# Altium integrated library NXP Semiconductors Standard MOSFETs.IntLib: 477 symbols (part 7 of 14)
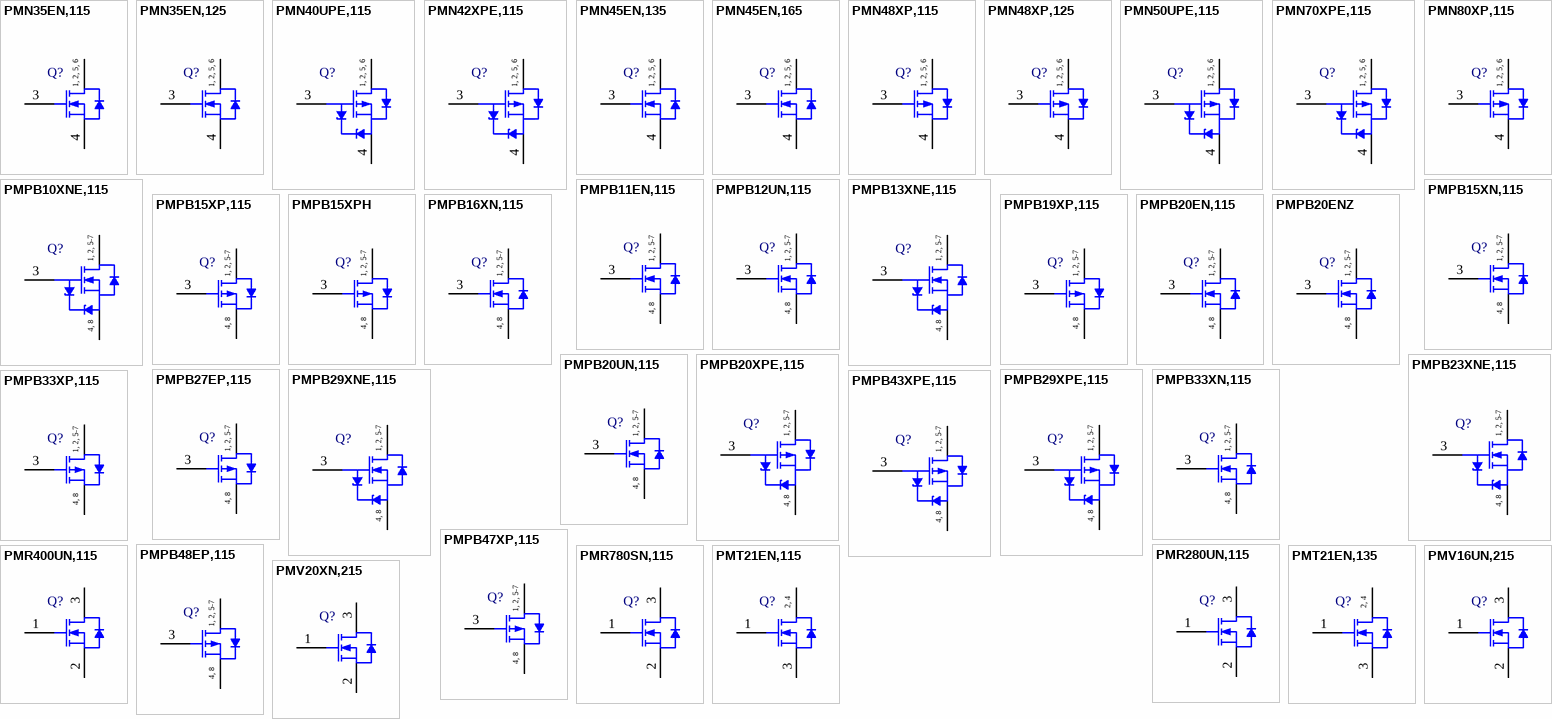
[diagram p18: symbols PMN35EN,115 to PMV20XN,215]

## PMT21EN,115
designator Q?
N-Channel Trench MOSFET, 30 V, 7.4 A, -55 to 150 degC, 4-Pin SOT223, Tape and Reel; Manufacturer: NXP Semiconductors; PartNumber: PMT21EN,115; Channel Type: N; Ciss [typ] (pF): 588; Coss [typ] (pF): 154; ID [max] (A): 7.4; Packing: Tape & Reel; VDS [max] (V): 30; VGSth [typ] (V): 1.5; DatasheetVersion: Rev. 1; PackageVersion: 06-03-16, 03/2006; PackageReference: SOT223; PackageDescription: 4-Pin Small Outline Transistor Package, Body 6.5 x 3.5 mm, Pitch 2.3 mm; Supplier 1: Digi-Key; Supplier Part Number 1: 568-10997-2-ND; Supplier 2: Digi-Key; Supplier Part Number 2: 568-10997-1-ND; Supplier 3: Digi-Key; Supplier Part Number 3: 568-10997-6-ND; Supplier 4: Mouser; Supplier Part Number 4: 771-PMT21EN,115; Mounting Technology: Surface Mount; Code_JEITA: SC-73; ComponentLink1Description: Manufacturer URL; ComponentLink1URL: http://www.nxp.com/; ComponentLink2Description: Datasheet; ComponentLink2URL: http://www.nxp.com/documents/data_sheet/PMT21EN.pdf; ComponentLink3Description: Package Specification; ComponentLink3URL: http://www.nxp.com/documents/outline_drawing/sot223_po.pdf
footprint NXP-SOT223_N (SOT223, 4-Leads, Body 6.7x3.7mm, Pitch 2.3mm, IPC Medium Density)
footprint NXP-SOT223_L (SOT223, 4-Leads, Body 6.7x3.7mm, Pitch 2.3mm, IPC High Density)
footprint NXP-SOT223_M (SOT223, 4-Leads, Body 6.7x3.7mm, Pitch 2.3mm, IPC Low Density)
pins: 1 G "gate", 2 D "drain", 3 S "source", 4 D "drain"
text: 2, 4

## PMT21EN,135
designator Q?
N-Channel Trench MOSFET, 30 V, 7.4 A, -55 to 150 degC, 4-Pin SOT223, Tape and Reel; Manufacturer: NXP Semiconductors; PartNumber: PMT21EN,135; Channel Type: N; Ciss [typ] (pF): 588; Coss [typ] (pF): 154; ID [max] (A): 7.4; Packing: Tape & Reel; VDS [max] (V): 30; VGSth [typ] (V): 1.5; DatasheetVersion: Rev. 1; PackageVersion: 06-03-16, 03/2006; PackageReference: SOT223; PackageDescription: 4-Pin Small Outline Transistor Package, Body 6.5 x 3.5 mm, Pitch 2.3 mm; Supplier 1: Digi-Key; Supplier Part Number 1: 568-10827-2-ND; Supplier 2: Digi-Key; Supplier Part Number 2: 568-10827-1-ND; Supplier 3: Digi-Key; Supplier Part Number 3: 568-10827-6-ND; Supplier 4: Mouser; Supplier Part Number 4: 771-PMT21EN,135; Mounting Technology: Surface Mount; Code_JEITA: SC-73; ComponentLink1Description: Manufacturer URL; ComponentLink1URL: http://www.nxp.com/; ComponentLink2Description: Datasheet; ComponentLink2URL: http://www.nxp.com/documents/data_sheet/PMT21EN.pdf; ComponentLink3Description: Package Specification; ComponentLink3URL: http://www.nxp.com/documents/outline_drawing/sot223_po.pdf
footprint NXP-SOT223_N (SOT223, 4-Leads, Body 6.7x3.7mm, Pitch 2.3mm, IPC Medium Density)
footprint NXP-SOT223_L (SOT223, 4-Leads, Body 6.7x3.7mm, Pitch 2.3mm, IPC High Density)
footprint NXP-SOT223_M (SOT223, 4-Leads, Body 6.7x3.7mm, Pitch 2.3mm, IPC Low Density)
pins: 1 G "gate", 2 D "drain", 3 S "source", 4 D "drain"
text: 2, 4

## PMV16UN,215
designator Q?
N-Channel Trench MOSFET, 20 V, 5.8 A, -55 to 150 degC, 3-Pin SOT23, Tape and Reel; Manufacturer: NXP Semiconductors; PartNumber: PMV16UN,215; Channel Type: N; Ciss [typ] (pF): 670; Coss [typ] (pF): 195; ID [max] (A): 5.8; Packing: Tape & Reel; VDS [max] (V): 20; VGSth [typ] (V): 0.7; DatasheetVersion: Rev. 1; PackageVersion: 06-03-16, 03/2006; PackageReference: SOT23; PackageDescription: 3-Pin Small Outline Transistor Package, Body 2.9 x 1.3 mm, Pitch 0.95 mm; Supplier 1: Digi-Key; Supplier Part Number 1: 568-7533-2-ND; Supplier 2: Digi-Key; Supplier Part Number 2: 568-7533-1-ND; Supplier 3: Digi-Key; Supplier Part Number 3: 568-7533-6-ND; Supplier 4: Newark; Supplier Part Number 4: 85W3197; Supplier 5: Newark; Supplier Part Number 5: 54T9403; Supplier 6: Mouser; Supplier Part Number 6: 771-PMV16UN215; Mounting Technology: Surface Mount; Code_JEDEC: TO-236AB; ComponentLink1Description: Manufacturer URL; ComponentLink1URL: http://www.nxp.com/; ComponentLink2Description: Datasheet; ComponentLink2URL: http://www.nxp.com/documents/data_sheet/PMV16UN.pdf; ComponentLink3Description: Package Specification; ComponentLink3URL: http://www.nxp.com/documents/outline_drawing/sot023_po.pdf
footprint NXP-SOT23_N (SOT23, 3-Leads, Body 3x1.4mm, Pitch 0.95mm, IPC Medium Density)
footprint NXP-SOT23_L (SOT23, 3-Leads, Body 3x1.4mm, Pitch 0.95mm, IPC High Density)
footprint NXP-SOT23_M (SOT23, 3-Leads, Body 3x1.4mm, Pitch 0.95mm, IPC Low Density)
pins: 1 G "gate", 2 S "source", 3 D "drain"

## PMV20XN,215
designator Q?
N-Channel Trench MOSFET, 30 V, 4.8 A, -55 to 150 degC, 3-Pin SOT23, Tape and Reel; Manufacturer: NXP Semiconductors; PartNumber: PMV20XN,215; Channel Type: N; Ciss [typ] (pF): 585; Coss [typ] (pF): 110; ID [max] (A): 4.8; Packing: Tape & Reel; VDS [max] (V): 30; VGSth [typ] (V): 1; DatasheetVersion: Rev. 1; PackageVersion: 06-03-16, 03/2006; PackageReference: SOT23; PackageDescription: 3-Pin Small Outline Transistor Package, Body 2.9 x 1.3 mm, Pitch 0.95 mm; Supplier 1: Digi-Key; Supplier Part Number 1: 568-7534-2-ND; Supplier 2: Digi-Key; Supplier Part Number 2: 568-7534-1-ND; Supplier 3: Digi-Key; Supplier Part Number 3: 568-7534-6-ND; Supplier 4: Newark; Supplier Part Number 4: 54T9405; Supplier 5: Mouser; Supplier Part Number 5: 771-PMV20XN215; Mounting Technology: Surface Mount; Code_JEDEC: TO-236AB; ComponentLink1Description: Manufacturer URL; ComponentLink1URL: http://www.nxp.com/; ComponentLink2Description: Datasheet; ComponentLink2URL: http://www.nxp.com/documents/data_sheet/PMV20XN.pdf; ComponentLink3Description: Package Specification; ComponentLink3URL: http://www.nxp.com/documents/outline_drawing/sot023_po.pdf
footprint NXP-SOT23_N (SOT23, 3-Leads, Body 3x1.4mm, Pitch 0.95mm, IPC Medium Density)
footprint NXP-SOT23_L (SOT23, 3-Leads, Body 3x1.4mm, Pitch 0.95mm, IPC High Density)
footprint NXP-SOT23_M (SOT23, 3-Leads, Body 3x1.4mm, Pitch 0.95mm, IPC Low Density)
pins: 1 G "gate", 2 S "source", 3 D "drain"

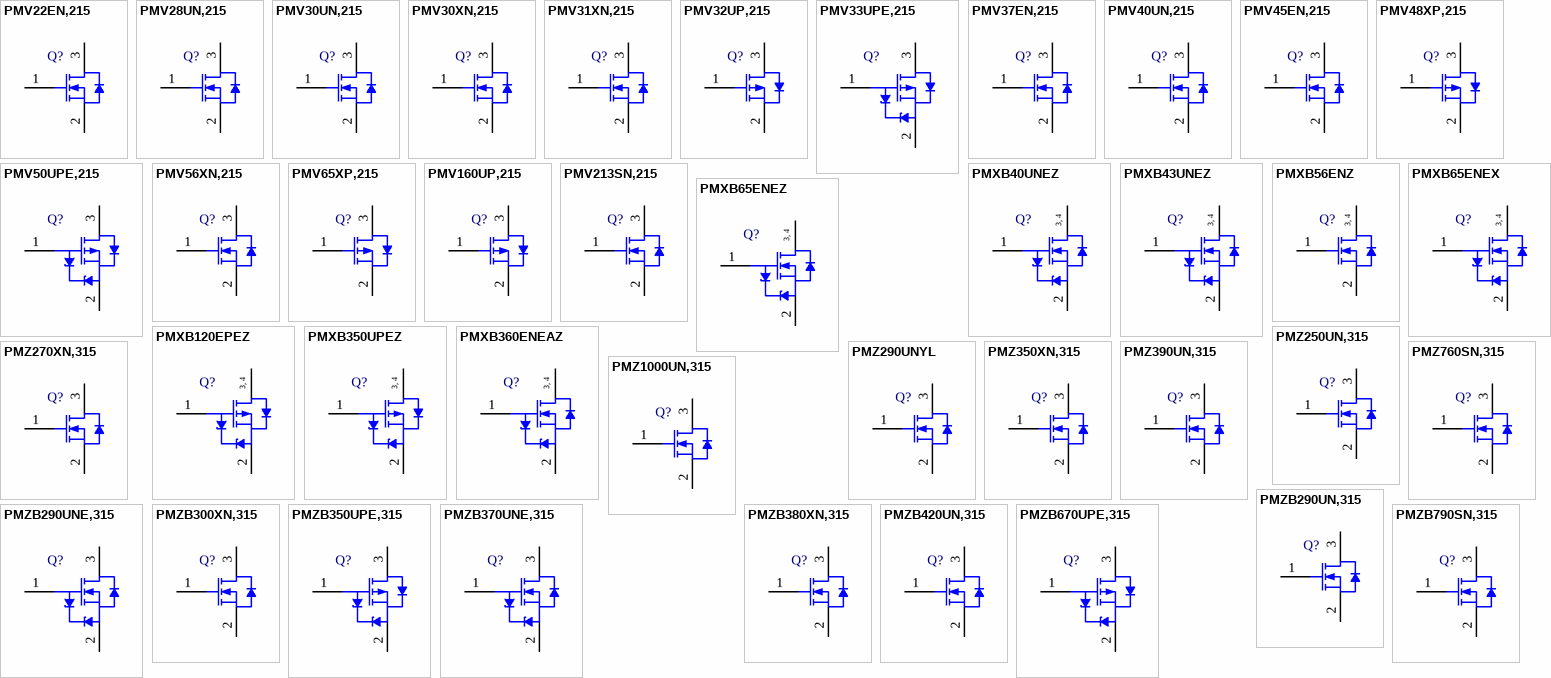
[diagram p6: symbols PMV22EN,215 to PMZB790SN,315]

## PMV22EN,215
designator Q?
N-Channel Trench MOSFET, 30 V, 5.2 A, -55 to 150 degC, 3-Pin SOT23, Tape and Reel; Manufacturer: NXP Semiconductors; PartNumber: PMV22EN,215; Channel Type: N; Ciss [typ] (pF): 480; Coss [typ] (pF): 110; ID [max] (A): 5.2; Packing: Tape & Reel; VDS [max] (V): 30; VGSth [typ] (V): 1.5; DatasheetVersion: Rev. 1; PackageVersion: 06-03-16, 03/2006; PackageReference: SOT23; PackageDescription: 3-Pin Small Outline Transistor Package, Body 2.9 x 1.3 mm, Pitch 0.95 mm; Supplier 1: Digi-Key; Supplier Part Number 1: 568-7535-2-ND; Supplier 2: Digi-Key; Supplier Part Number 2: 568-7535-1-ND; Supplier 3: Digi-Key; Supplier Part Number 3: 568-7535-6-ND; Supplier 4: Newark; Supplier Part Number 4: 54T9406; Supplier 5: Mouser; Supplier Part Number 5: 771-PMV22EN215; Mounting Technology: Surface Mount; Code_JEDEC: TO-236AB; ComponentLink1Description: Manufacturer URL; ComponentLink1URL: http://www.nxp.com/; ComponentLink2Description: Datasheet; ComponentLink2URL: http://www.nxp.com/documents/data_sheet/PMV22EN.pdf; ComponentLink3Description: Package Specification; ComponentLink3URL: http://www.nxp.com/documents/outline_drawing/sot023_po.pdf
footprint NXP-SOT23_N (SOT23, 3-Leads, Body 3x1.4mm, Pitch 0.95mm, IPC Medium Density)
footprint NXP-SOT23_L (SOT23, 3-Leads, Body 3x1.4mm, Pitch 0.95mm, IPC High Density)
footprint NXP-SOT23_M (SOT23, 3-Leads, Body 3x1.4mm, Pitch 0.95mm, IPC Low Density)
pins: 1 G "gate", 2 S "source", 3 D "drain"

## PMV28UN,215
designator Q?
N-Channel Trench MOSFET, 20 V, 3.3 A, -55 to 150 degC, 3-Pin SOT23, Tape and Reel; Manufacturer: NXP Semiconductors; PartNumber: PMV28UN,215; Channel Type: N; Ciss [typ] (pF): 470; Coss [typ] (pF): 123; ID [max] (A): 3.3; Packing: Tape & Reel; VDS [max] (V): 20; VGSth [typ] (V): 0.7; DatasheetVersion: Rev. 1; PackageVersion: 06-03-16, 03/2006; PackageReference: SOT23; PackageDescription: 3-Pin Small Outline Transistor Package, Body 2.9 x 1.3 mm, Pitch 0.95 mm; Supplier 1: Digi-Key; Supplier Part Number 1: 568-10832-2-ND; Supplier 2: Digi-Key; Supplier Part Number 2: 568-10832-1-ND; Supplier 3: Digi-Key; Supplier Part Number 3: 568-10832-6-ND; Supplier 4: Mouser; Supplier Part Number 4: 771-PMV28UN215; Mounting Technology: Surface Mount; Code_JEDEC: TO-236AB; ComponentLink1Description: Manufacturer URL; ComponentLink1URL: http://www.nxp.com/; ComponentLink2Description: Datasheet; ComponentLink2URL: http://www.nxp.com/documents/data_sheet/PMV28UN.pdf; ComponentLink3Description: Package Specification; ComponentLink3URL: http://www.nxp.com/documents/outline_drawing/sot023_po.pdf
footprint NXP-SOT23_N (SOT23, 3-Leads, Body 3x1.4mm, Pitch 0.95mm, IPC Medium Density)
footprint NXP-SOT23_L (SOT23, 3-Leads, Body 3x1.4mm, Pitch 0.95mm, IPC High Density)
footprint NXP-SOT23_M (SOT23, 3-Leads, Body 3x1.4mm, Pitch 0.95mm, IPC Low Density)
pins: 1 G "gate", 2 S "source", 3 D "drain"

## PMV30UN,215
designator Q?
N-Channel uTrenchMOS(TM) Ultra Low Level FET, 20 V, 5.7 A, 3-Pin SOT23, Tape and Reel; Manufacturer: NXP Semiconductors; PartNumber: PMV30UN,215; Channel Type: N; Ciss [typ] (pF): 460; Coss [typ] (pF): 100; ID [max] (A): 5.7; Packing: Tape & Reel; VDS [max] (V): 20; VGSth [typ] (V): 0.7; DatasheetVersion: Rev. 01; PackageVersion: 06-03-16, 03/2006; PackageReference: SOT23; PackageDescription: 3-Pin Small Outline Transistor Package, Body 2.9 x 1.3 mm, Pitch 0.95 mm; Supplier 1: Digi-Key; Supplier Part Number 1: 568-2353-2-ND; Supplier 2: Digi-Key; Supplier Part Number 2: 568-2353-1-ND; Supplier 3: Digi-Key; Supplier Part Number 3: 568-2353-6-ND; Supplier 4: Farnell; Supplier Part Number 4: 1758116; Supplier 5: Farnell; Supplier Part Number 5: 1758116RL; Supplier 6: Farnell; Supplier Part Number 6: 2371115; Supplier 7: Farnell; Supplier Part Number 7: 2147133; Supplier 8: Newark; Supplier Part Number 8: 75R4835; Supplier 9: Newark; Supplier Part Number 9: 70R7867; Supplier 10: Mouser; Supplier Part Number 10: 771-PMV30UN-T/R; Mounting Technology: Surface Mount; Code_JEDEC: TO-236AB; ComponentLink1Description: Manufacturer URL; ComponentLink1URL: http://www.nxp.com/; ComponentLink2Description: Datasheet; ComponentLink2URL: http://www.nxp.com/documents/data_sheet/PMV30UN.pdf; ComponentLink3Description: Package Specification; ComponentLink3URL: http://www.nxp.com/documents/outline_drawing/sot023_po.pdf
footprint NXP-SOT23_N (SOT23, 3-Leads, Body 3x1.4mm, Pitch 0.95mm, IPC Medium Density)
footprint NXP-SOT23_L (SOT23, 3-Leads, Body 3x1.4mm, Pitch 0.95mm, IPC High Density)
footprint NXP-SOT23_M (SOT23, 3-Leads, Body 3x1.4mm, Pitch 0.95mm, IPC Low Density)
pins: 1 G "gate", 2 S "source", 3 D "drain"

## PMV30XN,215
designator Q?
N-Channel Trench MOSFET, 20 V, 3.2 A, -55 to 150 degC, 3-Pin SOT23, Tape and Reel; Manufacturer: NXP Semiconductors; PartNumber: PMV30XN,215; Channel Type: N; Ciss [typ] (pF): 420; Coss [typ] (pF): 125; ID [max] (A): 3.2; Packing: Tape & Reel; VDS [max] (V): 20; VGSth [typ] (V): 1; DatasheetVersion: Rev. 1; PackageVersion: 06-03-16, 03/2006; PackageReference: SOT23; PackageDescription: 3-Pin Small Outline Transistor Package, Body 2.9 x 1.3 mm, Pitch 0.95 mm; Supplier 1: Digi-Key; Supplier Part Number 1: 568-10833-2-ND; Supplier 2: Digi-Key; Supplier Part Number 2: 568-10833-1-ND; Supplier 3: Digi-Key; Supplier Part Number 3: 568-10833-6-ND; Supplier 4: Newark; Supplier Part Number 4: 54T9408; Supplier 5: Mouser; Supplier Part Number 5: 771-PMV30XN215; Mounting Technology: Surface Mount; Code_JEDEC: TO-236AB; ComponentLink1Description: Manufacturer URL; ComponentLink1URL: http://www.nxp.com/; ComponentLink2Description: Datasheet; ComponentLink2URL: http://www.nxp.com/documents/data_sheet/PMV30XN.pdf; ComponentLink3Description: Package Specification; ComponentLink3URL: http://www.nxp.com/documents/outline_drawing/sot023_po.pdf
footprint NXP-SOT23_N (SOT23, 3-Leads, Body 3x1.4mm, Pitch 0.95mm, IPC Medium Density)
footprint NXP-SOT23_L (SOT23, 3-Leads, Body 3x1.4mm, Pitch 0.95mm, IPC High Density)
footprint NXP-SOT23_M (SOT23, 3-Leads, Body 3x1.4mm, Pitch 0.95mm, IPC Low Density)
pins: 1 G "gate", 2 S "source", 3 D "drain"

## PMV31XN,215
designator Q?
N-Channel TrenchMOS FET, 20 V, 5.9 A, 3-Pin SOT23, Tape and Reel; Manufacturer: NXP Semiconductors; PartNumber: PMV31XN,215; Channel Type: N; Ciss [typ] (pF): 410; Coss [typ] (pF): 115; ID [max] (A): 5.9; Packing: Tape & Reel; VDS [max] (V): 20; DatasheetVersion: Rev. 2; PackageVersion: 06-03-16, 03/2006; PackageReference: SOT23; PackageDescription: 3-Pin Small Outline Transistor Package, Body 2.9 x 1.3 mm, Pitch 0.95 mm; Supplier 1: Digi-Key; Supplier Part Number 1: 568-2354-2-ND; Supplier 2: Digi-Key; Supplier Part Number 2: 568-2354-1-ND; Supplier 3: Digi-Key; Supplier Part Number 3: 568-2354-6-ND; Supplier 4: Newark; Supplier Part Number 4: 75R4836; Supplier 5: Mouser; Supplier Part Number 5: 771-PMV31XN-T/R; Mounting Technology: Surface Mount; Code_JEDEC: TO-236AB; ComponentLink1Description: Manufacturer URL; ComponentLink1URL: http://www.nxp.com/; ComponentLink2Description: Datasheet; ComponentLink2URL: http://www.nxp.com/documents/data_sheet/PMV31XN.pdf; ComponentLink3Description: Package Specification; ComponentLink3URL: http://www.nxp.com/documents/outline_drawing/sot023_po.pdf
footprint NXP-SOT23_N (SOT23, 3-Leads, Body 3x1.4mm, Pitch 0.95mm, IPC Medium Density)
footprint NXP-SOT23_L (SOT23, 3-Leads, Body 3x1.4mm, Pitch 0.95mm, IPC High Density)
footprint NXP-SOT23_M (SOT23, 3-Leads, Body 3x1.4mm, Pitch 0.95mm, IPC Low Density)
pins: 1 G "gate", 2 S "source", 3 D "drain"

## PMV32UP,215
designator Q?
P-Channel Trench MOSFET, -20 V, -4 A, -55 to 150 degC, 3-Pin SOT23, Tape and Reel; Manufacturer: NXP Semiconductors; PartNumber: PMV32UP,215; Channel Type: P; Ciss [typ] (pF): 1890; Coss [typ] (pF): 175; Packing: Tape & Reel; VGSth [typ] (V): -0.7; DatasheetVersion: Rev. 1; PackageVersion: 06-03-16, 03/2006; PackageReference: SOT23; PackageDescription: 3-Pin Small Outline Transistor Package, Body 2.9 x 1.3 mm, Pitch 0.95 mm; Supplier 1: Digi-Key; Supplier Part Number 1: 568-10321-2-ND; Supplier 2: Digi-Key; Supplier Part Number 2: 568-10321-1-ND; Supplier 3: Digi-Key; Supplier Part Number 3: 568-10321-6-ND; Supplier 4: Newark; Supplier Part Number 4: 54T9409; Supplier 5: Mouser; Supplier Part Number 5: 771-PMV32UP215; ID [max] (A): -4; VDS [max] (V): -20; Mounting Technology: Surface Mount; Code_JEDEC: TO-236AB; ComponentLink1Description: Manufacturer URL; ComponentLink1URL: http://www.nxp.com/; ComponentLink2Description: Datasheet; ComponentLink2URL: http://www.nxp.com/documents/data_sheet/PMV32UP.pdf; ComponentLink3Description: Package Specification; ComponentLink3URL: http://www.nxp.com/documents/outline_drawing/sot023_po.pdf
footprint NXP-SOT23_N (SOT23, 3-Leads, Body 3x1.4mm, Pitch 0.95mm, IPC Medium Density)
footprint NXP-SOT23_L (SOT23, 3-Leads, Body 3x1.4mm, Pitch 0.95mm, IPC High Density)
footprint NXP-SOT23_M (SOT23, 3-Leads, Body 3x1.4mm, Pitch 0.95mm, IPC Low Density)
pins: 1 G "gate", 2 S "source", 3 D "drain"

## PMV33UPE,215
designator Q?
Single P-Channel Trench MOSFET, -20 V, -55 to 150 degC, 3-Pin SOT23, Tape and Reel; Manufacturer: NXP Semiconductors; PartNumber: PMV33UPE,215; Channel Type: P; Ciss [typ] (pF): 1820; Coss [typ] (pF): 208; Packing: Tape & Reel; VGSth [typ] (V): -0.7; DatasheetVersion: Rev. 1; PackageVersion: 06-03-16, 03/2006; PackageReference: SOT23; PackageDescription: 3-Pin Small Outline Transistor Package, Body 2.9 x 1.3 mm, Pitch 0.95 mm; Supplier 1: Digi-Key; Supplier Part Number 1: 568-10834-2-ND; Supplier 2: Digi-Key; Supplier Part Number 2: 568-10834-1-ND; Supplier 3: Digi-Key; Supplier Part Number 3: 568-10834-6-ND; Supplier 4: Mouser; Supplier Part Number 4: 771-PMV33UPE215; VDS [max] (V): -20; Mounting Technology: Surface Mount; Code_JEDEC: TO-236AB; ComponentLink1Description: Manufacturer URL; ComponentLink1URL: http://www.nxp.com/; ComponentLink2Description: Datasheet; ComponentLink2URL: http://www.nxp.com/documents/data_sheet/PMV33UPE.pdf; ComponentLink3Description: Package Specification; ComponentLink3URL: http://www.nxp.com/documents/outline_drawing/sot023_po.pdf
footprint NXP-SOT23_N (SOT23, 3-Leads, Body 3x1.4mm, Pitch 0.95mm, IPC Medium Density)
footprint NXP-SOT23_L (SOT23, 3-Leads, Body 3x1.4mm, Pitch 0.95mm, IPC High Density)
footprint NXP-SOT23_M (SOT23, 3-Leads, Body 3x1.4mm, Pitch 0.95mm, IPC Low Density)
pins: 1 G "gate", 2 S "source", 3 D "drain"

## PMV37EN,215
designator Q?
N-Channel Trench MOSFET, 30 V, 3.1 A, -55 to 150 degC, 3-Pin SOT23, Tape and Reel; Manufacturer: NXP Semiconductors; PartNumber: PMV37EN,215; Channel Type: N; Ciss [typ] (pF): 330; Coss [typ] (pF): 76; ID [max] (A): 3.1; Packing: Tape & Reel; VDS [max] (V): 30; VGSth [typ] (V): 1.5; DatasheetVersion: Rev. 1; PackageVersion: 06-03-16, 03/2006; PackageReference: SOT23; PackageDescription: 3-Pin Small Outline Transistor Package, Body 2.9 x 1.3 mm, Pitch 0.95 mm; Supplier 1: Digi-Key; Supplier Part Number 1: 568-10835-2-ND; Supplier 2: Digi-Key; Supplier Part Number 2: 568-10835-1-ND; Supplier 3: Digi-Key; Supplier Part Number 3: 568-10835-6-ND; Supplier 4: Mouser; Supplier Part Number 4: 771-PMV37EN215; Mounting Technology: Surface Mount; Code_JEDEC: TO-236AB; ComponentLink1Description: Manufacturer URL; ComponentLink1URL: http://www.nxp.com/; ComponentLink2Description: Datasheet; ComponentLink2URL: http://www.nxp.com/documents/data_sheet/PMV37EN.pdf; ComponentLink3Description: Package Specification; ComponentLink3URL: http://www.nxp.com/documents/outline_drawing/sot023_po.pdf
footprint NXP-SOT23_N (SOT23, 3-Leads, Body 3x1.4mm, Pitch 0.95mm, IPC Medium Density)
footprint NXP-SOT23_L (SOT23, 3-Leads, Body 3x1.4mm, Pitch 0.95mm, IPC High Density)
footprint NXP-SOT23_M (SOT23, 3-Leads, Body 3x1.4mm, Pitch 0.95mm, IPC Low Density)
pins: 1 G "gate", 2 S "source", 3 D "drain"

## PMV40UN,215
designator Q?
N-Channel TrenchMOS(TM) Ultra Low Level FET, 30 V, 4.9 A, 3-Pin SOT23, Tape and Reel; Manufacturer: NXP Semiconductors; PartNumber: PMV40UN,215; Channel Type: N; Ciss [typ] (pF): 445; Coss [typ] (pF): 65; ID [max] (A): 4.9; Packing: Tape & Reel; VDS [max] (V): 30; VGSth [typ] (V): 0.7; DatasheetVersion: Rev. 01; PackageVersion: 06-03-16, 03/2006; PackageReference: SOT23; PackageDescription: 3-Pin Small Outline Transistor Package, Body 2.9 x 1.3 mm, Pitch 0.95 mm; Supplier 1: Digi-Key; Supplier Part Number 1: 568-2355-2-ND; Supplier 2: Digi-Key; Supplier Part Number 2: 568-2355-1-ND; Supplier 3: Digi-Key; Supplier Part Number 3: 568-2355-6-ND; Supplier 4: Farnell; Supplier Part Number 4: 1758117RL; Supplier 5: Farnell; Supplier Part Number 5: 1758117; Supplier 6: Farnell; Supplier Part Number 6: 2371116; Supplier 7: Farnell; Supplier Part Number 7: 2147268; Supplier 8: Newark; Supplier Part Number 8: 75R4837; Supplier 9: Newark; Supplier Part Number 9: 70R7869; Supplier 10: Mouser; Supplier Part Number 10: 771-PMV40UN-T/R; Mounting Technology: Surface Mount; Code_JEDEC: TO-236AB; ComponentLink1Description: Manufacturer URL; ComponentLink1URL: http://www.nxp.com/; ComponentLink2Description: Datasheet; ComponentLink2URL: http://www.nxp.com/documents/data_sheet/PMV40UN.pdf; ComponentLink3Description: Package Specification; ComponentLink3URL: http://www.nxp.com/documents/outline_drawing/sot023_po.pdf
footprint NXP-SOT23_N (SOT23, 3-Leads, Body 3x1.4mm, Pitch 0.95mm, IPC Medium Density)
footprint NXP-SOT23_L (SOT23, 3-Leads, Body 3x1.4mm, Pitch 0.95mm, IPC High Density)
footprint NXP-SOT23_M (SOT23, 3-Leads, Body 3x1.4mm, Pitch 0.95mm, IPC Low Density)
pins: 1 G "gate", 2 S "source", 3 D "drain"

## PMV45EN,215
designator Q?
N-Channel TrenchMOS Logic Level FET, 30 V, 5.4 A, 3-Pin SOT23, Tape and Reel; Manufacturer: NXP Semiconductors; PartNumber: PMV45EN,215; Channel Type: N; Ciss [typ] (pF): 350; Coss [typ] (pF): 70; ID [max] (A): 5.4; Packing: Tape & Reel; VDS [max] (V): 30; VGSth [typ] (V): 1.5; DatasheetVersion: Rev. 2; PackageVersion: 06-03-16, 03/2006; PackageReference: SOT23; PackageDescription: 3-Pin Small Outline Transistor Package, Body 2.9 x 1.3 mm, Pitch 0.95 mm; Supplier 1: Digi-Key; Supplier Part Number 1: 568-2356-2-ND; Supplier 2: Digi-Key; Supplier Part Number 2: 568-2356-1-ND; Supplier 3: Digi-Key; Supplier Part Number 3: 568-2356-6-ND; Supplier 4: Newark; Supplier Part Number 4: 75R4838; Supplier 5: Newark; Supplier Part Number 5: 70R7870; Supplier 6: Mouser; Supplier Part Number 6: 771-PMV45EN-T/R; Mounting Technology: Surface Mount; Code_JEDEC: TO-236AB; ComponentLink1Description: Manufacturer URL; ComponentLink1URL: http://www.nxp.com/; ComponentLink2Description: Datasheet; ComponentLink2URL: http://www.nxp.com/documents/data_sheet/PMV45EN.pdf; ComponentLink3Description: Package Specification; ComponentLink3URL: http://www.nxp.com/documents/outline_drawing/sot023_po.pdf
footprint NXP-SOT23_N (SOT23, 3-Leads, Body 3x1.4mm, Pitch 0.95mm, IPC Medium Density)
footprint NXP-SOT23_L (SOT23, 3-Leads, Body 3x1.4mm, Pitch 0.95mm, IPC High Density)
footprint NXP-SOT23_M (SOT23, 3-Leads, Body 3x1.4mm, Pitch 0.95mm, IPC Low Density)
pins: 1 G "gate", 2 S "source", 3 D "drain"

## PMV48XP,215
designator Q?
P-Channel Trench MOSFET, -20 V, -3.5 A, -55 to 150 degC, 3-Pin SOT23, Tape and Reel; Manufacturer: NXP Semiconductors; PartNumber: PMV48XP,215; Channel Type: P; Ciss [typ] (pF): 1000; Coss [typ] (pF): 130; Packing: Tape & Reel; VGSth [typ] (V): -1; DatasheetVersion: Rev. 1; PackageVersion: 06-03-16, 03/2006; PackageReference: SOT23; PackageDescription: 3-Pin Small Outline Transistor Package, Body 2.9 x 1.3 mm, Pitch 0.95 mm; Supplier 1: Digi-Key; Supplier Part Number 1: 568-7579-2-ND; Supplier 2: Digi-Key; Supplier Part Number 2: 568-7579-1-ND; Supplier 3: Digi-Key; Supplier Part Number 3: 568-7579-6-ND; Supplier 4: Newark; Supplier Part Number 4: 54T9411; Supplier 5: Mouser; Supplier Part Number 5: 771-PMV48XP215; ID [max] (A): -3.5; VDS [max] (V): -20; Mounting Technology: Surface Mount; Code_JEDEC: TO-236AB; ComponentLink1Description: Manufacturer URL; ComponentLink1URL: http://www.nxp.com/; ComponentLink2Description: Datasheet; ComponentLink2URL: http://www.nxp.com/documents/data_sheet/PMV48XP.pdf; ComponentLink3Description: Package Specification; ComponentLink3URL: http://www.nxp.com/documents/outline_drawing/sot023_po.pdf
footprint NXP-SOT23_N (SOT23, 3-Leads, Body 3x1.4mm, Pitch 0.95mm, IPC Medium Density)
footprint NXP-SOT23_L (SOT23, 3-Leads, Body 3x1.4mm, Pitch 0.95mm, IPC High Density)
footprint NXP-SOT23_M (SOT23, 3-Leads, Body 3x1.4mm, Pitch 0.95mm, IPC Low Density)
pins: 1 G "gate", 2 S "source", 3 D "drain"

## PMV50UPE,215
designator Q?
Single P-Channel Trench MOSFET, -20 V, -55 to 150 degC, 3-Pin SOT23, Tape and Reel; Manufacturer: NXP Semiconductors; PartNumber: PMV50UPE,215; Channel Type: P; Ciss [typ] (pF): 24; Coss [typ] (pF): 106; Packing: Tape & Reel; VGSth [typ] (V): -0.6; DatasheetVersion: Rev. 1; PackageVersion: 06-03-16, 03/2006; PackageReference: SOT23; PackageDescription: 3-Pin Small Outline Transistor Package, Body 2.9 x 1.3 mm, Pitch 0.95 mm; Supplier 1: Digi-Key; Supplier Part Number 1: 568-10836-2-ND; Supplier 2: Digi-Key; Supplier Part Number 2: 568-10836-1-ND; Supplier 3: Digi-Key; Supplier Part Number 3: 568-10836-6-ND; Supplier 4: Mouser; Supplier Part Number 4: 771-PMV50UPE215; VDS [max] (V): -20; Mounting Technology: Surface Mount; Code_JEDEC: TO-236AB; ComponentLink1Description: Manufacturer URL; ComponentLink1URL: http://www.nxp.com/; ComponentLink2Description: Datasheet; ComponentLink2URL: http://www.nxp.com/documents/data_sheet/PMV50UPE.pdf; ComponentLink3Description: Package Specification; ComponentLink3URL: http://www.nxp.com/documents/outline_drawing/sot023_po.pdf
footprint NXP-SOT23_N (SOT23, 3-Leads, Body 3x1.4mm, Pitch 0.95mm, IPC Medium Density)
footprint NXP-SOT23_L (SOT23, 3-Leads, Body 3x1.4mm, Pitch 0.95mm, IPC High Density)
footprint NXP-SOT23_M (SOT23, 3-Leads, Body 3x1.4mm, Pitch 0.95mm, IPC Low Density)
pins: 1 G "gate", 2 S "source", 3 D "drain"

## PMV56XN,215
designator Q?
N-Channel uTrenchMOS(TM) Extremely Low Level FET, 20 V, 3.76 A, 3-Pin SOT23, Tape and Reel; Manufacturer: NXP Semiconductors; PartNumber: PMV56XN,215; Channel Type: N; Ciss [typ] (pF): 230; Coss [typ] (pF): 125; ID [max] (A): 3.76; Packing: Tape & Reel; VDS [max] (V): 20; DatasheetVersion: Rev. 02; PackageVersion: 06-03-16, 03/2006; PackageReference: SOT23; PackageDescription: 3-Pin Small Outline Transistor Package, Body 2.9 x 1.3 mm, Pitch 0.95 mm; Supplier 1: Digi-Key; Supplier Part Number 1: 568-6540-2-ND; Supplier 2: Digi-Key; Supplier Part Number 2: 568-6540-1-ND; Supplier 3: Digi-Key; Supplier Part Number 3: 568-6540-6-ND; Supplier 4: Farnell; Supplier Part Number 4: 1758118; Supplier 5: Farnell; Supplier Part Number 5: 1758118RL; Supplier 6: Farnell; Supplier Part Number 6: 2395544; Supplier 7: Newark; Supplier Part Number 7: 79R2050; Supplier 8: Mouser; Supplier Part Number 8: 771-PMV56XN215; Mounting Technology: Surface Mount; Code_JEDEC: TO-236AB; ComponentLink1Description: Manufacturer URL; ComponentLink1URL: http://www.nxp.com/; ComponentLink2Description: Datasheet; ComponentLink2URL: http://www.nxp.com/documents/data_sheet/PMV56XN.pdf; ComponentLink3Description: Package Specification; ComponentLink3URL: http://www.nxp.com/documents/outline_drawing/sot023_po.pdf
footprint NXP-SOT23_N (SOT23, 3-Leads, Body 3x1.4mm, Pitch 0.95mm, IPC Medium Density)
footprint NXP-SOT23_L (SOT23, 3-Leads, Body 3x1.4mm, Pitch 0.95mm, IPC High Density)
footprint NXP-SOT23_M (SOT23, 3-Leads, Body 3x1.4mm, Pitch 0.95mm, IPC Low Density)
pins: 1 G "gate", 2 S "source", 3 D "drain"

## PMV65XP,215
designator Q?
Single P-Channel Trench MOSFET, -20 V, -55 to 150 degC, 3-Pin SOT23, Tape and Reel; Manufacturer: NXP Semiconductors; PartNumber: PMV65XP,215; Channel Type: P; Ciss [typ] (pF): 744; Coss [typ] (pF): 65; Packing: Tape & Reel; VGSth [typ] (V): -0.65; DatasheetVersion: Rev. 2; PackageVersion: 06-03-16, 03/2006; PackageReference: SOT23; PackageDescription: 3-Pin Small Outline Transistor Package, Body 2.9 x 1.3 mm, Pitch 0.95 mm; Supplier 1: Digi-Key; Supplier Part Number 1: 568-2358-2-ND; Supplier 2: Digi-Key; Supplier Part Number 2: 568-2358-1-ND; Supplier 3: Digi-Key; Supplier Part Number 3: 568-2358-6-ND; Supplier 4: Farnell; Supplier Part Number 4: 1758119; Supplier 5: Farnell; Supplier Part Number 5: 1758119RL; Supplier 6: Farnell; Supplier Part Number 6: 2336821; Supplier 7: Farnell; Supplier Part Number 7: 2147884; Supplier 8: Newark; Supplier Part Number 8: 75R4840; Supplier 9: Newark; Supplier Part Number 9: 70R7873; Supplier 10: Mouser; Supplier Part Number 10: 771-PMV65XP-T/R; VDS [max] (V): -20; Mounting Technology: Surface Mount; Code_JEDEC: TO-236AB; ComponentLink1Description: Manufacturer URL; ComponentLink1URL: http://www.nxp.com/; ComponentLink2Description: Datasheet; ComponentLink2URL: http://www.nxp.com/documents/data_sheet/PMV65XP.pdf; ComponentLink3Description: Package Specification; ComponentLink3URL: http://www.nxp.com/documents/outline_drawing/sot023_po.pdf
footprint NXP-SOT23_N (SOT23, 3-Leads, Body 3x1.4mm, Pitch 0.95mm, IPC Medium Density)
footprint NXP-SOT23_L (SOT23, 3-Leads, Body 3x1.4mm, Pitch 0.95mm, IPC High Density)
footprint NXP-SOT23_M (SOT23, 3-Leads, Body 3x1.4mm, Pitch 0.95mm, IPC Low Density)
pins: 1 G "gate", 2 S "source", 3 D "drain"

## PMV160UP,215
designator Q?
P-Channel Trench MOSFET, -20 V, -1.2 A, -55 to 150 degC, 3-Pin SOT23, Tape and Reel; Manufacturer: NXP Semiconductors; PartNumber: PMV160UP,215; Channel Type: P; Ciss [typ] (pF): 365; Coss [typ] (pF): 42; Packing: Tape & Reel; VGSth [typ] (V): -0.7; DatasheetVersion: Rev. 2; PackageVersion: 06-03-16, 03/2006; PackageReference: SOT23; PackageDescription: 3-Pin Small Outline Transistor Package, Body 2.9 x 1.3 mm, Pitch 0.95 mm; Supplier 1: Digi-Key; Supplier Part Number 1: 568-10320-2-ND; Supplier 2: Digi-Key; Supplier Part Number 2: 568-10320-1-ND; Supplier 3: Digi-Key; Supplier Part Number 3: 568-10320-6-ND; Supplier 4: Newark; Supplier Part Number 4: 54T9404; Supplier 5: Mouser; Supplier Part Number 5: 771-PMV160UP215; ID [max] (A): -1.2; VDS [max] (V): -20; Mounting Technology: Surface Mount; Code_JEDEC: TO-236AB; ComponentLink1Description: Manufacturer URL; ComponentLink1URL: http://www.nxp.com/; ComponentLink2Description: Datasheet; ComponentLink2URL: http://www.nxp.com/documents/data_sheet/PMV160UP.pdf; ComponentLink3Description: Package Specification; ComponentLink3URL: http://www.nxp.com/documents/outline_drawing/sot023_po.pdf
footprint NXP-SOT23_N (SOT23, 3-Leads, Body 3x1.4mm, Pitch 0.95mm, IPC Medium Density)
footprint NXP-SOT23_L (SOT23, 3-Leads, Body 3x1.4mm, Pitch 0.95mm, IPC High Density)
footprint NXP-SOT23_M (SOT23, 3-Leads, Body 3x1.4mm, Pitch 0.95mm, IPC Low Density)
pins: 1 G "gate", 2 S "source", 3 D "drain"

## PMV213SN,215
designator Q?
N-Channel uTrenchMOS(TM) Standard Level FET, 100 V, 1.9 A, 3-Pin SOT23, Tape and Reel; Manufacturer: NXP Semiconductors; PartNumber: PMV213SN,215; Channel Type: N; Ciss [typ] (pF): 330; Coss [typ] (pF): 36; ID [max] (A): 1.9; Packing: Tape & Reel; Qr [typ] (nC): 23; VDS [max] (V): 100; VGSth [typ] (V): 3; DatasheetVersion: Rev. 02; PackageVersion: 06-03-16, 03/2006; PackageReference: SOT23; PackageDescription: 3-Pin Small Outline Transistor Package, Body 2.9 x 1.3 mm, Pitch 0.95 mm; Supplier 1: Digi-Key; Supplier Part Number 1: 568-8112-2-ND; Supplier 2: Digi-Key; Supplier Part Number 2: 568-8112-1-ND; Supplier 3: Digi-Key; Supplier Part Number 3: 568-8112-6-ND; Supplier 4: Newark; Supplier Part Number 4: 79R2049; Supplier 5: Newark; Supplier Part Number 5: 70R7866; Supplier 6: Mouser; Supplier Part Number 6: 771-PMV213SN215; Mounting Technology: Surface Mount; Code_JEDEC: TO-236AB; ComponentLink1Description: Manufacturer URL; ComponentLink1URL: http://www.nxp.com/; ComponentLink2Description: Datasheet; ComponentLink2URL: http://www.nxp.com/documents/data_sheet/PMV213SN.pdf; ComponentLink3Description: Package Specification; ComponentLink3URL: http://www.nxp.com/documents/outline_drawing/sot023_po.pdf
footprint NXP-SOT23_N (SOT23, 3-Leads, Body 3x1.4mm, Pitch 0.95mm, IPC Medium Density)
footprint NXP-SOT23_L (SOT23, 3-Leads, Body 3x1.4mm, Pitch 0.95mm, IPC High Density)
footprint NXP-SOT23_M (SOT23, 3-Leads, Body 3x1.4mm, Pitch 0.95mm, IPC Low Density)
pins: 1 G "gate", 2 S "source", 3 D "drain"

## PMXB40UNEZ
designator Q?
N-Channel Trench MOSFET, 12 V, 3.2 A, -55 to 150 degC, 4-Pin SOT1215; Manufacturer: NXP Semiconductors; PartNumber: PMXB40UNEZ; Channel Type: N; Ciss [typ] (pF): 556; Coss [typ] (pF): 107; ID [max] (A): 3.2; VDS [max] (V): 12; VGSth [typ] (V): 0.65; DatasheetVersion: Rev. 1; PackageVersion: 13-03-06, 03/2013; PackageReference: SOT1215; PackageDescription: 3-Pin Small Outline No-Lead, Body 1.1 x 1 mm, Pitch 0.75 mm; Supplier 1: Digi-Key; Supplier Part Number 1: PMXB40UNEZ-ND; Supplier 2: Newark; Supplier Part Number 2: 23X8433; Supplier 3: Mouser; Supplier Part Number 3: 771-PMXB40UNEZ; Mounting Technology: Surface Mount; ComponentLink1Description: Manufacturer URL; ComponentLink1URL: http://www.nxp.com/; ComponentLink2Description: Datasheet; ComponentLink2URL: http://www.nxp.com/documents/data_sheet/PMXB40UNE.pdf; ComponentLink3Description: Package Specification; ComponentLink3URL: http://www.nxp.com/documents/outline_drawing/sot1215_po.pdf
footprint NXP-SOT1215_N (SON, 3-Leads, Body 1.15x1.05mm, Pitch 0.75mm, Thermal Pad 0.91x0.2mm, IPC Medium Density)
footprint NXP-SOT1215_L (SON, 3-Leads, Body 1.15x1.05mm, Pitch 0.75mm, Thermal Pad 0.91x0.2mm, IPC High Density)
footprint NXP-SOT1215_M (SON, 3-Leads, Body 1.15x1.05mm, Pitch 0.75mm, Thermal Pad 0.91x0.2mm, IPC Low Density)
pins: 1 G "gate", 2 S "source", 3 D "drain", 4 D "drain"
text: 3, 4

## PMXB43UNEZ
designator Q?
N-Channel Trench MOSFET, 20 V, 3.2 A, -55 to 150 degC, 4-Pin SOT1215; Manufacturer: NXP Semiconductors; PartNumber: PMXB43UNEZ; Channel Type: N; Ciss [typ] (pF): 551; Coss [typ] (pF): 57; ID [max] (A): 3.2; VDS [max] (V): 20; VGSth [typ] (V): 0.65; DatasheetVersion: Rev. 1; PackageVersion: 13-03-06, 03/2013; PackageReference: SOT1215; PackageDescription: 3-Pin Small Outline No-Lead, Body 1.1 x 1 mm, Pitch 0.75 mm; Supplier 1: Digi-Key; Supplier Part Number 1: PMXB43UNEZ-ND; Supplier 2: Newark; Supplier Part Number 2: 23X8434; Supplier 3: Mouser; Supplier Part Number 3: 771-PMXB43UNEZ; Mounting Technology: Surface Mount; ComponentLink1Description: Manufacturer URL; ComponentLink1URL: http://www.nxp.com/; ComponentLink2Description: Datasheet; ComponentLink2URL: http://www.nxp.com/documents/data_sheet/PMXB43UNE.pdf; ComponentLink3Description: Package Specification; ComponentLink3URL: http://www.nxp.com/documents/outline_drawing/sot1215_po.pdf
footprint NXP-SOT1215_N (SON, 3-Leads, Body 1.15x1.05mm, Pitch 0.75mm, Thermal Pad 0.91x0.2mm, IPC Medium Density)
footprint NXP-SOT1215_L (SON, 3-Leads, Body 1.15x1.05mm, Pitch 0.75mm, Thermal Pad 0.91x0.2mm, IPC High Density)
footprint NXP-SOT1215_M (SON, 3-Leads, Body 1.15x1.05mm, Pitch 0.75mm, Thermal Pad 0.91x0.2mm, IPC Low Density)
pins: 1 G "gate", 2 S "source", 3 D "drain", 4 D "drain"
text: 3, 4

## PMXB56ENZ
designator Q?
N-Channel Trench MOSFET, 30 V, 3.2 A, -55 to 150 degC, 4-Pin SOT1215; Manufacturer: NXP Semiconductors; PartNumber: PMXB56ENZ; Channel Type: N; Ciss [typ] (pF): 209; Coss [typ] (pF): 50; ID [max] (A): 3.2; VDS [max] (V): 30; VGSth [typ] (V): 1.5; DatasheetVersion: Rev. 2; PackageVersion: 13-03-06, 03/2013; PackageReference: SOT1215; PackageDescription: 3-Pin Small Outline No-Lead, Body 1.1 x 1 mm, Pitch 0.75 mm; Supplier 1: Digi-Key; Supplier Part Number 1: PMXB56ENZ-ND; Supplier 2: Newark; Supplier Part Number 2: 23X8435; Supplier 3: Mouser; Supplier Part Number 3: 771-PMXB56ENZ; Mounting Technology: Surface Mount; ComponentLink1Description: Manufacturer URL; ComponentLink1URL: http://www.nxp.com/; ComponentLink2Description: Datasheet; ComponentLink2URL: http://www.nxp.com/documents/data_sheet/PMXB56EN.pdf; ComponentLink3Description: Package Specification; ComponentLink3URL: http://www.nxp.com/documents/outline_drawing/sot1215_po.pdf
footprint NXP-SOT1215_N (SON, 3-Leads, Body 1.15x1.05mm, Pitch 0.75mm, Thermal Pad 0.91x0.2mm, IPC Medium Density)
footprint NXP-SOT1215_L (SON, 3-Leads, Body 1.15x1.05mm, Pitch 0.75mm, Thermal Pad 0.91x0.2mm, IPC High Density)
footprint NXP-SOT1215_M (SON, 3-Leads, Body 1.15x1.05mm, Pitch 0.75mm, Thermal Pad 0.91x0.2mm, IPC Low Density)
pins: 1 G "gate", 2 S "source", 3 D "drain", 4 D "drain"
text: 3, 4

## PMXB65ENEX
designator Q?
N-Channel Trench MOSFET, 30 V, 3.2 A, -55 to 150 degC, 4-Pin SOT1215, Reel; Manufacturer: NXP Semiconductors; PartNumber: PMXB65ENEX; Channel Type: N; Ciss [typ] (pF): 295; Coss [typ] (pF): 40; ID [max] (A): 3.2; VDS [max] (V): 30; VGSth [typ] (V): 1.4; DatasheetVersion: Rev. 2; PackageVersion: 13-03-06, 03/2013; PackageReference: SOT1215; PackageDescription: 3-Pin Small Outline No-Lead, Body 1.1 x 1 mm, Pitch 0.75 mm; Supplier 1: Mouser; Supplier Part Number 1: N/A; Packing: Reel; Mounting Technology: Surface Mount; ComponentLink1Description: Manufacturer URL; ComponentLink1URL: http://www.nxp.com/; ComponentLink2Description: Datasheet; ComponentLink2URL: http://www.nxp.com/documents/data_sheet/PMXB65ENE.pdf; ComponentLink3Description: Package Specification; ComponentLink3URL: http://www.nxp.com/documents/outline_drawing/sot1215_po.pdf
footprint NXP-SOT1215_N (SON, 3-Leads, Body 1.15x1.05mm, Pitch 0.75mm, Thermal Pad 0.91x0.2mm, IPC Medium Density)
footprint NXP-SOT1215_L (SON, 3-Leads, Body 1.15x1.05mm, Pitch 0.75mm, Thermal Pad 0.91x0.2mm, IPC High Density)
footprint NXP-SOT1215_M (SON, 3-Leads, Body 1.15x1.05mm, Pitch 0.75mm, Thermal Pad 0.91x0.2mm, IPC Low Density)
pins: 1 G "gate", 2 S "source", 3 D "drain", 4 D "drain"
text: 3, 4

## PMXB65ENEZ
designator Q?
N-Channel Trench MOSFET, 30 V, 3.2 A, -55 to 150 degC, 4-Pin SOT1215; Manufacturer: NXP Semiconductors; PartNumber: PMXB65ENEZ; Channel Type: N; Ciss [typ] (pF): 295; Coss [typ] (pF): 40; ID [max] (A): 3.2; VDS [max] (V): 30; VGSth [typ] (V): 1.4; DatasheetVersion: Rev. 2; PackageVersion: 13-03-06, 03/2013; PackageReference: SOT1215; PackageDescription: 3-Pin Small Outline No-Lead, Body 1.1 x 1 mm, Pitch 0.75 mm; Supplier 1: Digi-Key; Supplier Part Number 1: PMXB65ENEZ-ND; Supplier 2: Newark; Supplier Part Number 2: 23X8436; Supplier 3: Mouser; Supplier Part Number 3: 771-PMXB65ENEZ; Mounting Technology: Surface Mount; ComponentLink1Description: Manufacturer URL; ComponentLink1URL: http://www.nxp.com/; ComponentLink2Description: Datasheet; ComponentLink2URL: http://www.nxp.com/documents/data_sheet/PMXB65ENE.pdf; ComponentLink3Description: Package Specification; ComponentLink3URL: http://www.nxp.com/documents/outline_drawing/sot1215_po.pdf
footprint NXP-SOT1215_N (SON, 3-Leads, Body 1.15x1.05mm, Pitch 0.75mm, Thermal Pad 0.91x0.2mm, IPC Medium Density)
footprint NXP-SOT1215_L (SON, 3-Leads, Body 1.15x1.05mm, Pitch 0.75mm, Thermal Pad 0.91x0.2mm, IPC High Density)
footprint NXP-SOT1215_M (SON, 3-Leads, Body 1.15x1.05mm, Pitch 0.75mm, Thermal Pad 0.91x0.2mm, IPC Low Density)
pins: 1 G "gate", 2 S "source", 3 D "drain", 4 D "drain"
text: 3, 4

## PMXB120EPEZ
designator Q?
P-Channel Trench MOSFET, -30 V, -2.4 A, -55 to 150 degC, 4-Pin SOT1215; Manufacturer: NXP Semiconductors; PartNumber: PMXB120EPEZ; Channel Type: P; Ciss [typ] (pF): 309; Coss [typ] (pF): 41; VGSth [typ] (V): -1.5; DatasheetVersion: Rev. 1; PackageVersion: 13-03-06, 03/2013; PackageReference: SOT1215; PackageDescription: 3-Pin Small Outline No-Lead, Body 1.1 x 1 mm, Pitch 0.75 mm; Supplier 1: Digi-Key; Supplier Part Number 1: PMXB120EPEZ-ND; Supplier 2: Newark; Supplier Part Number 2: 23X8430; Supplier 3: Mouser; Supplier Part Number 3: 771-PMXB120EPEZ; ID [max] (A): -2.4; VDS [max] (V): -30; Mounting Technology: Surface Mount; ComponentLink1Description: Manufacturer URL; ComponentLink1URL: http://www.nxp.com/; ComponentLink2Description: Datasheet; ComponentLink2URL: http://www.nxp.com/documents/data_sheet/PMXB120EPE.pdf; ComponentLink3Description: Package Specification; ComponentLink3URL: http://www.nxp.com/documents/outline_drawing/sot1215_po.pdf
footprint NXP-SOT1215_N (SON, 3-Leads, Body 1.15x1.05mm, Pitch 0.75mm, Thermal Pad 0.91x0.2mm, IPC Medium Density)
footprint NXP-SOT1215_L (SON, 3-Leads, Body 1.15x1.05mm, Pitch 0.75mm, Thermal Pad 0.91x0.2mm, IPC High Density)
footprint NXP-SOT1215_M (SON, 3-Leads, Body 1.15x1.05mm, Pitch 0.75mm, Thermal Pad 0.91x0.2mm, IPC Low Density)
pins: 1 G "gate", 2 S "source", 3 D "drain", 4 D "drain"
text: 3, 4

## PMXB350UPEZ
designator Q?
P-Channel Trench MOSFET, -20 V, -1.2 A, -55 to 150 degC, 4-Pin SOT1215; Manufacturer: NXP Semiconductors; PartNumber: PMXB350UPEZ; Channel Type: P; Ciss [typ] (pF): 116; Coss [typ] (pF): 16.5; VGSth [typ] (V): -0.7; DatasheetVersion: Rev. 2; PackageVersion: 13-03-06, 03/2013; PackageReference: SOT1215; PackageDescription: 3-Pin Small Outline No-Lead, Body 1.1 x 1 mm, Pitch 0.75 mm; Supplier 1: Digi-Key; Supplier Part Number 1: PMXB350UPEZ-ND; Supplier 2: Newark; Supplier Part Number 2: 23X8431; Supplier 3: Mouser; Supplier Part Number 3: 771-PMXB350UPEZ; ID [max] (A): -1.2; VDS [max] (V): -20; Mounting Technology: Surface Mount; ComponentLink1Description: Manufacturer URL; ComponentLink1URL: http://www.nxp.com/; ComponentLink2Description: Datasheet; ComponentLink2URL: http://www.nxp.com/documents/data_sheet/PMXB350UPE.pdf; ComponentLink3Description: Package Specification; ComponentLink3URL: http://www.nxp.com/documents/outline_drawing/sot1215_po.pdf
footprint NXP-SOT1215_N (SON, 3-Leads, Body 1.15x1.05mm, Pitch 0.75mm, Thermal Pad 0.91x0.2mm, IPC Medium Density)
footprint NXP-SOT1215_L (SON, 3-Leads, Body 1.15x1.05mm, Pitch 0.75mm, Thermal Pad 0.91x0.2mm, IPC High Density)
footprint NXP-SOT1215_M (SON, 3-Leads, Body 1.15x1.05mm, Pitch 0.75mm, Thermal Pad 0.91x0.2mm, IPC Low Density)
pins: 1 G "gate", 2 S "source", 3 D "drain", 4 D "drain"
text: 3, 4

## PMXB360ENEAZ
designator Q?
N-Channel Trench MOSFET, 80 V, 1.1 A, -55 to 150 degC, 4-Pin SOT1215; Manufacturer: NXP Semiconductors; PartNumber: PMXB360ENEAZ; Channel Type: N; Ciss [typ] (pF): 130; Coss [typ] (pF): 20; ID [max] (A): 1.1; VDS [max] (V): 80; VGSth [typ] (V): 1.7; DatasheetVersion: Rev. 1; PackageVersion: 13-03-06, 03/2013; PackageReference: SOT1215; PackageDescription: 3-Pin Small Outline No-Lead, Body 1.1 x 1 mm, Pitch 0.75 mm; Supplier 1: Digi-Key; Supplier Part Number 1: PMXB360ENEAZ-ND; Supplier 2: Newark; Supplier Part Number 2: 23X8432; Supplier 3: Mouser; Supplier Part Number 3: 771-PMXB360ENEAZ; Mounting Technology: Surface Mount; ComponentLink1Description: Manufacturer URL; ComponentLink1URL: http://www.nxp.com/; ComponentLink2Description: Datasheet; ComponentLink2URL: http://www.nxp.com/documents/data_sheet/PMXB360ENEA.pdf; ComponentLink3Description: Package Specification; ComponentLink3URL: http://www.nxp.com/documents/outline_drawing/sot1215_po.pdf
footprint NXP-SOT1215_N (SON, 3-Leads, Body 1.15x1.05mm, Pitch 0.75mm, Thermal Pad 0.91x0.2mm, IPC Medium Density)
footprint NXP-SOT1215_L (SON, 3-Leads, Body 1.15x1.05mm, Pitch 0.75mm, Thermal Pad 0.91x0.2mm, IPC High Density)
footprint NXP-SOT1215_M (SON, 3-Leads, Body 1.15x1.05mm, Pitch 0.75mm, Thermal Pad 0.91x0.2mm, IPC Low Density)
pins: 1 G "gate", 2 S "source", 3 D "drain", 4 D "drain"
text: 3, 4

## PMZ250UN,315
designator Q?
N-Channel TrenchMOS Extremely Low Level FET, 20 V, 2.28 A, 3-Pin SOT883, Tape and Reel; Manufacturer: NXP Semiconductors; PartNumber: PMZ250UN,315; Channel Type: N; Ciss [typ] (pF): 45; Coss [typ] (pF): 11; ID [max] (A): 2.28; Packing: Tape & Reel; VDS [max] (V): 20; VGSth [typ] (V): 0.7; DatasheetVersion: Rev. 01; PackageVersion: 03-04-03, 04/2003; PackageReference: SOT883; PackageDescription: 3-Pin Small Outline No-Lead, Body 0.585 x 0.985 mm, Pitch 0.35 mm; Supplier 1: Digi-Key; Supplier Part Number 1: 568-6775-2-ND; Supplier 2: Digi-Key; Supplier Part Number 2: 568-6775-1-ND; Supplier 3: Digi-Key; Supplier Part Number 3: 568-6775-6-ND; Supplier 4: Farnell; Supplier Part Number 4: 1758120RL; Supplier 5: Farnell; Supplier Part Number 5: 1758120; Supplier 6: Newark; Supplier Part Number 6: 79R2051; Supplier 7: Mouser; Supplier Part Number 7: 771-PMZ250UN315; Mounting Technology: Surface Mount; Code_JEITA: SC-101; ComponentLink1Description: Manufacturer URL; ComponentLink1URL: http://www.nxp.com/; ComponentLink2Description: Datasheet; ComponentLink2URL: http://www.nxp.com/documents/data_sheet/PMZ250UN.pdf; ComponentLink3Description: Package Specification; ComponentLink3URL: http://www.nxp.com/documents/outline_drawing/sot883_po.pdf
footprint NXP-SOT883_N (SON, 3-Leads, Body 1.02x0.62mm, Pitch 0.35mm, IPC Medium Density)
footprint NXP-SOT883_L (SON, 3-Leads, Body 1.02x0.62mm, Pitch 0.35mm, IPC High Density)
footprint NXP-SOT883_M (SON, 3-Leads, Body 1.02x0.62mm, Pitch 0.35mm, IPC Low Density)
pins: 1 G "gate", 2 S "source", 3 D "drain"

## PMZ270XN,315
designator Q?
N-Channel TrenchMOS Extremely Low Level FET, 20 V, 2.15 A, 3-Pin SOT883, Tape and Reel; Manufacturer: NXP Semiconductors; PartNumber: PMZ270XN,315; Channel Type: N; Ciss [typ] (pF): 34; Coss [typ] (pF): 12; ID [max] (A): 2.15; Packing: Tape & Reel; VDS [max] (V): 20; VGSth [typ] (V): 1; DatasheetVersion: Rev. 01; PackageVersion: 03-04-03, 04/2003; PackageReference: SOT883; PackageDescription: 3-Pin Small Outline No-Lead, Body 0.585 x 0.985 mm, Pitch 0.35 mm; Supplier 1: Digi-Key; Supplier Part Number 1: 568-7440-2-ND; Supplier 2: Digi-Key; Supplier Part Number 2: 568-7440-1-ND; Supplier 3: Digi-Key; Supplier Part Number 3: 568-7440-6-ND; Supplier 4: Mouser; Supplier Part Number 4: 771-PMZ270XN315; Mounting Technology: Surface Mount; Code_JEITA: SC-101; ComponentLink1Description: Manufacturer URL; ComponentLink1URL: http://www.nxp.com/; ComponentLink2Description: Datasheet; ComponentLink2URL: http://www.nxp.com/documents/data_sheet/PMZ270XN.pdf; ComponentLink3Description: Package Specification; ComponentLink3URL: http://www.nxp.com/documents/outline_drawing/sot883_po.pdf
footprint NXP-SOT883_N (SON, 3-Leads, Body 1.02x0.62mm, Pitch 0.35mm, IPC Medium Density)
footprint NXP-SOT883_L (SON, 3-Leads, Body 1.02x0.62mm, Pitch 0.35mm, IPC High Density)
footprint NXP-SOT883_M (SON, 3-Leads, Body 1.02x0.62mm, Pitch 0.35mm, IPC Low Density)
pins: 1 G "gate", 2 S "source", 3 D "drain"

## PMZ290UNYL
designator Q?
Single N-Channel Trench MOSFET, 20 V, 1 A, -55 to 150 degC, 3-Pin SOT883, Tape and Reel; Manufacturer: NXP Semiconductors; PartNumber: PMZ290UNYL; Channel Type: N; Ciss [typ] (pF): 45; Coss [typ] (pF): 11; ID [max] (A): 1; Packing: Tape & Reel; VDS [max] (V): 20; VGSth [typ] (V): 0.7; DatasheetVersion: Rev. 1; PackageVersion: 03-04-03, 04/2003; PackageReference: SOT883; PackageDescription: 3-Pin Small Outline No-Lead, Body 0.585 x 0.985 mm, Pitch 0.35 mm; Supplier 1: Digi-Key; Supplier Part Number 1: 568-10839-2-ND; Supplier 2: Digi-Key; Supplier Part Number 2: 568-10839-1-ND; Supplier 3: Digi-Key; Supplier Part Number 3: 568-10839-6-ND; Supplier 4: Mouser; Supplier Part Number 4: 771-PMZ290UNYL; Mounting Technology: Surface Mount; Code_JEITA: SC-101; ComponentLink1Description: Manufacturer URL; ComponentLink1URL: http://www.nxp.com/; ComponentLink2Description: Datasheet; ComponentLink2URL: http://www.nxp.com/documents/data_sheet/PMZ290UN.pdf; ComponentLink3Description: Package Specification; ComponentLink3URL: http://www.nxp.com/documents/outline_drawing/sot883_po.pdf
footprint NXP-SOT883_N (SON, 3-Leads, Body 1.02x0.62mm, Pitch 0.35mm, IPC Medium Density)
footprint NXP-SOT883_L (SON, 3-Leads, Body 1.02x0.62mm, Pitch 0.35mm, IPC High Density)
footprint NXP-SOT883_M (SON, 3-Leads, Body 1.02x0.62mm, Pitch 0.35mm, IPC Low Density)
pins: 1 G "gate", 2 S "source", 3 D "drain"

## PMZ350XN,315
designator Q?
N-Channel TrenchMOS Standard Level FET, 30 V, 1.87 A, 3-Pin SOT883, Tape and Reel; Manufacturer: NXP Semiconductors; PartNumber: PMZ350XN,315; Channel Type: N; Ciss [typ] (pF): 37; Coss [typ] (pF): 8.6; ID [max] (A): 1.87; Packing: Tape & Reel; VDS [max] (V): 30; VGSth [typ] (V): 1; DatasheetVersion: Rev. 01; PackageVersion: 03-04-03, 04/2003; PackageReference: SOT883; PackageDescription: 3-Pin Small Outline No-Lead, Body 0.585 x 0.985 mm, Pitch 0.35 mm; Supplier 1: Digi-Key; Supplier Part Number 1: 568-7441-2-ND; Supplier 2: Digi-Key; Supplier Part Number 2: 568-7441-1-ND; Supplier 3: Digi-Key; Supplier Part Number 3: 568-7441-6-ND; Supplier 4: Newark; Supplier Part Number 4: 70R7877; Supplier 5: Mouser; Supplier Part Number 5: 771-PMZ350XN315; Mounting Technology: Surface Mount; Code_JEITA: SC-101; ComponentLink1Description: Manufacturer URL; ComponentLink1URL: http://www.nxp.com/; ComponentLink2Description: Datasheet; ComponentLink2URL: http://www.nxp.com/documents/data_sheet/PMZ350XN.pdf; ComponentLink3Description: Package Specification; ComponentLink3URL: http://www.nxp.com/documents/outline_drawing/sot883_po.pdf
footprint NXP-SOT883_N (SON, 3-Leads, Body 1.02x0.62mm, Pitch 0.35mm, IPC Medium Density)
footprint NXP-SOT883_L (SON, 3-Leads, Body 1.02x0.62mm, Pitch 0.35mm, IPC High Density)
footprint NXP-SOT883_M (SON, 3-Leads, Body 1.02x0.62mm, Pitch 0.35mm, IPC Low Density)
pins: 1 G "gate", 2 S "source", 3 D "drain"

## PMZ390UN,315
designator Q?
N-Channel TrenchMOS Standard Level FET, 30 V, 1.78 A, 3-Pin SOT883, Tape and Reel; Manufacturer: NXP Semiconductors; PartNumber: PMZ390UN,315; Channel Type: N; Ciss [typ] (pF): 43; Coss [typ] (pF): 7.7; ID [max] (A): 1.78; Packing: Tape & Reel; VDS [max] (V): 30; VGSth [typ] (V): 0.7; DatasheetVersion: Rev. 01; PackageVersion: 03-04-03, 04/2003; PackageReference: SOT883; PackageDescription: 3-Pin Small Outline No-Lead, Body 0.585 x 0.985 mm, Pitch 0.35 mm; Supplier 1: Digi-Key; Supplier Part Number 1: 568-7442-2-ND; Supplier 2: Digi-Key; Supplier Part Number 2: 568-7442-1-ND; Supplier 3: Digi-Key; Supplier Part Number 3: 568-7442-6-ND; Supplier 4: Farnell; Supplier Part Number 4: 1758121; Supplier 5: Newark; Supplier Part Number 5: 75R4841; Supplier 6: Mouser; Supplier Part Number 6: 771-PMZ390UN315; Mounting Technology: Surface Mount; Code_JEITA: SC-101; ComponentLink1Description: Manufacturer URL; ComponentLink1URL: http://www.nxp.com/; ComponentLink2Description: Datasheet; ComponentLink2URL: http://www.nxp.com/documents/data_sheet/PMZ390UN.pdf; ComponentLink3Description: Package Specification; ComponentLink3URL: http://www.nxp.com/documents/outline_drawing/sot883_po.pdf
footprint NXP-SOT883_N (SON, 3-Leads, Body 1.02x0.62mm, Pitch 0.35mm, IPC Medium Density)
footprint NXP-SOT883_L (SON, 3-Leads, Body 1.02x0.62mm, Pitch 0.35mm, IPC High Density)
footprint NXP-SOT883_M (SON, 3-Leads, Body 1.02x0.62mm, Pitch 0.35mm, IPC Low Density)
pins: 1 G "gate", 2 S "source", 3 D "drain"